# Altium footprint library Intelligent_Agriculture_pcblib.PcbLib: 36 footprints (part 2 of 3)
Each footprint in its own frame and in the unit in brackets; x right, y up, seen from the top. Pads: shape width x height; smd on the part's side, far side on the other; paste and mask are expansions set on the pad; w line width, h text height; cw(c..) or ccw(c..) is an arc to the next point about the centre after c.
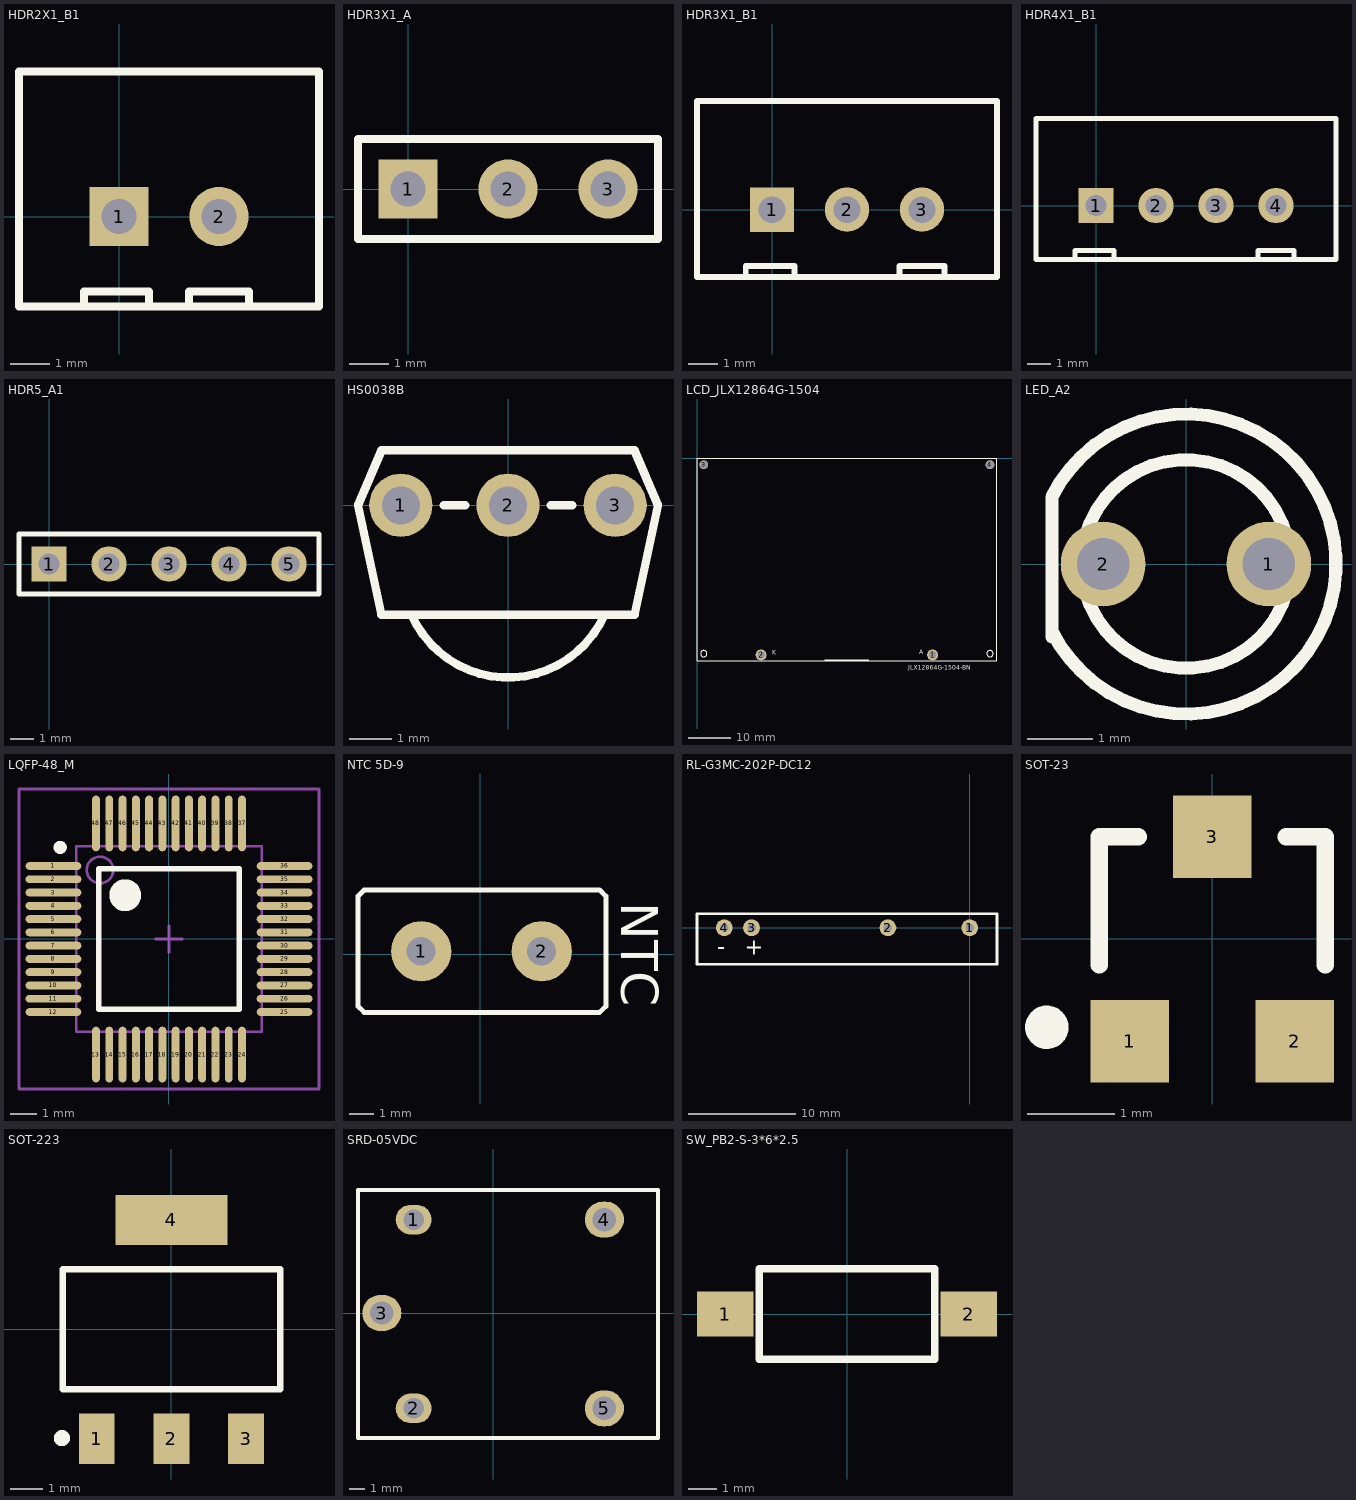
[diagram p1: the footprints below, top view; thin cyan lines are the x and y axes]

## HDR2X1_B1 [mm]
pads (2):
  rect 1.5x1.5 hole 0.9: 1(0,0)
  round 1.5 hole 0.9: 2(2.54,0)
Top Overlay:
  lines w0.2: -0.889,-2.286 -0.889,-1.905 0.762,-1.905 0.762,-2.286 ; 1.778,-2.286 1.778,-1.905 3.302,-1.905 3.302,-2.286 ; -2.54,-2.286 5.08,-2.286 5.08,3.683 -2.54,3.683 -2.54,-2.286
3D body: height 1.5, standoff 0, extent -2.413,-2.159 5.08,3.556

## HDR3X1_A [mm]
pads (3):
  rect 1.5x1.5 hole 0.9: 1(0,0)
  round 1.5 hole 0.9: 2(2.54,0) 3(5.08,0)
Top Overlay:
  lines w0.2: -1.27,-1.27 -1.27,1.27 6.35,1.27 6.35,-1.27 -1.27,-1.27

## HDR3X1_B1 [mm]
pads (3):
  rect 1.5x1.5 hole 0.9: 1(0,0)
  round 1.5 hole 0.9: 2(2.54,0) 3(5.08,0)
Top Overlay:
  lines w0.2: -0.889,-2.286 -0.889,-1.905 0.762,-1.905 0.762,-2.286 ; 4.318,-2.286 4.318,-1.905 5.842,-1.905 5.842,-2.286 ; -2.54,-2.286 7.62,-2.286 7.62,3.683 -2.54,3.683 -2.54,-2.286
3D body: height 1.5, standoff 0, extent -2.54,-2.286 7.62,3.683

## HDR4X1_B1 [mm]
pads (4):
  rect 1.5x1.5 hole 0.9: 1(0,0)
  round 1.5 hole 0.9: 2(2.54,0) 3(5.08,0) 4(7.62,0)
Top Overlay:
  lines w0.2: -0.889,-2.286 -0.889,-1.905 0.762,-1.905 0.762,-2.286 ; 6.858,-2.286 6.858,-1.905 8.382,-1.905 8.382,-2.286 ; -2.54,-2.286 10.16,-2.286 10.16,3.683 -2.54,3.683 -2.54,-2.286
3D body: height 1.5, standoff 0, extent -2.413,-2.159 10.033,3.556

## HDR5_A1 [mm]
pads (5):
  rect 1.5x1.5 hole 0.9: 1(0,0)
  round 1.5 hole 0.9: 2(2.54,0) 3(5.08,0) 4(7.62,0) 5(10.16,0)
Top Overlay:
  lines w0.2: -1.27,-1.27 11.43,-1.27 11.43,1.27 -1.27,1.27 -1.27,-1.27

## HS0038B [mm]
pads (3):
  round 1.5 hole 0.9: 1(-2.54,0) 2(0,0) 3(2.54,0)
Top Overlay:
  lines w0.2: -2.285,-2.599 ccw(c0,-1.584) 2.285,-2.599 ; -1.524,0 -1.016,0 ; 1.016,0 1.524,0 ; -3.556,0 -3,-2.6 3,-2.6 3.556,0 3,1.3 -3,1.3 -3.556,0

## LCD_JLX12864G-1504 [mm]
pads (4):
  round 2.6 hole 1.8: 1(56.05,-46.85) 2(15.25,-46.85)
  round 2.1 hole 2.1: 3(1.6,-1.6) 4(69.7,-1.6)
Top Overlay:
  circle w0.254: c69.7,-46.55 r0.762
  circle w0.254: c1.6,-46.55 r0.762
  lines w0.254: 30.4,-48 40.9,-48 ; 0,-48.26 71.374,-48.26 71.374,0 0,0 0,-48.26
  text "JLX12864G-1504-BN" at 50.217,-50.435 h1.02
  text "K" at 17.907,-46.863 h1.02
  text "A" at 52.832,-46.736 h1.02

## LED_A2 [mm]
pads (2):
  round 1.3 hole 0.8: 1(1.27,0) 2(-1.27,0)
Top Overlay:
  circle w0.2: c0,0 r1.6
  lines w0.2: -2.057,-1.118 -2.057,1.029 cw(c0,0) -2.057,-1.029

## LQFP-48_M [mm]
pads (48):
  oval 2.1x0.3 smd: 1(-4.354,2.75) 2(-4.354,2.25) 3(-4.354,1.75) 4(-4.354,1.25) 5(-4.354,0.75) 6(-4.354,0.25) 7(-4.354,-0.25) 8(-4.354,-0.75) 9(-4.354,-1.25) 10(-4.354,-1.75) 11(-4.354,-2.25) 12(-4.354,-2.75) 25(4.354,-2.75) 26(4.354,-2.25) 27(4.354,-1.75) 28(4.354,-1.25) 29(4.354,-0.75) 30(4.354,-0.25) 31(4.354,0.25) 32(4.354,0.75) 33(4.354,1.25) 34(4.354,1.75) 35(4.354,2.25) 36(4.354,2.75)
  oval 0.3x2.1 smd: 13(-2.75,-4.354) 14(-2.25,-4.354) 15(-1.75,-4.354) 16(-1.25,-4.354) 17(-0.75,-4.354) 18(-0.25,-4.354) 19(0.25,-4.354) 20(0.75,-4.354) 21(1.25,-4.354) 22(1.75,-4.354) 23(2.25,-4.354) 24(2.75,-4.354) 37(2.75,4.354) 38(2.25,4.354) 39(1.75,4.354) 40(1.25,4.354) 41(0.75,4.354) 42(0.25,4.354) 43(-0.25,4.354) 44(-0.75,4.354) 45(-1.25,4.354) 46(-1.75,4.354) 47(-2.25,4.354) 48(-2.75,4.354)
Top Overlay:
  circle w0.6: c-1.65,1.65 r0.3
  circle w0.25: c-4.1,3.45 r0.125
  lines w0.2: -2.65,-2.65 2.65,-2.65 2.65,2.65 -2.65,2.65 -2.65,-2.65
Mechanical 13:
  circle w0.1: c-2.6,2.6 r0.5
  lines w0.1: -3.5,-3.5 3.5,-3.5 3.5,3.5 -3.5,3.5 -3.5,-3.5
Mechanical 15:
  lines w0.1: -0.5,0 0.5,0 ; 0,-0.5 0,0.5 ; -5.65,-5.65 5.65,-5.65 5.65,5.65 -5.65,5.65 -5.65,-5.65
3D body: height 1.6, standoff 0, extent -3.5,-3.5 3.5,3.5

## NTC 5D-9 [mm]
pads (2):
  round 2.5 hole 1.2: 1(-2.46,0.127) 2(2.54,0.127)
Top Overlay:
  lines w0.2: -5.08,-2.159 -5.08,2.413 -4.826,2.667 -3.302,2.667 4.953,2.667 5.207,2.413 5.207,-2.159 4.953,-2.413 3.175,-2.413 -4.826,-2.413 -5.08,-2.159
  text "NTC" at 5.842,2.159 h1.52

## PCBComponent_1 [mm]

## RL-G3MC-202P-DC12 [mm] "12V 固态继电器"
pads (4):
  round 1.57 hole 0.8: 1(0,0) 2(-7.62,0) 3(-20.32,0) 4(-22.86,0)
Top Overlay:
  lines w0.254: -25.4,-3.4 2.54,-3.4 2.54,1.3 -25.4,1.3 -25.4,-3.4
  text "+" at -20.955,-2.54 h1.52
  text "-" at -23.495,-2.54 h1.52

## SOT-23 [mm]
pads (3):
  rect 0.9x0.95 smd: 1(-0.95,-1.175) 2(0.95,-1.175) 3(0,1.175)
Top Overlay:
  circle w0.25: c-1.903,-1.016 r0.125
  lines w0.2: -1.3,-0.3 -1.3,1.175 -0.85,1.175 ; 0.85,1.175 1.3,1.175 1.3,-0.3

## SOT-223 [mm]
pads (4):
  rect 1.1x1.55 smd: 1(-2.3,-3.375) 2(0,-3.375) 3(2.3,-3.375)
  rect 3.45x1.55 smd: 4(0,3.375)
Top Overlay:
  circle w0.25: c-3.376,-3.353 r0.125
  lines w0.2: -3.35,-1.85 3.35,-1.85 3.35,1.85 -3.35,1.85 -3.35,-1.85
3D body: height 0.3, standoff 0, extent 1.905,-3.937 2.794,-2.032
3D body: height 0.3, standoff 0, extent -0.508,-3.937 0.381,-2.032
3D body: height 0.3, standoff 0, extent -2.794,-3.937 -1.905,-2.032
3D body: height 0.3, standoff 0, extent -1.651,2.159 1.651,3.429
3D body: height 0.8, standoff 0, extent -3.302,-2.032 3.302,2.159

## SRD-05VDC [mm]
pads (5):
  oval 2.3x1.9 hole 1.3: 1(-5.08,5.969) 2(-5.08,-6.096)
  oval 2.5x2.3 hole 1.5: 3(-7.112,0) 4(7.112,5.969) 5(7.112,-6.096)
Top Overlay:
  lines w0.254: -8.636,-8.001 10.541,-8.001 10.541,7.874 -8.636,7.874 -8.636,7.239 -8.636,-7.239 -8.636,-8.001
Bottom Overlay:
  lines w0.254: -5.715,0.127 3.81,0.127 5.588,1.905 ; -3.81,-6.096 -3.175,-6.096 -3.175,-3.556 -3.175,-2.921 -3.175,-2.286 cw(c-3.175,-1.651) -3.175,-1.016 cw(c-3.175,-0.381) -3.175,0.254 cw(c-3.175,0.889) -3.175,1.524 cw(c-3.175,2.159) -3.175,2.794 -3.175,3.429 -3.175,5.969 -3.81,5.969 ; 5.08,-0.635 5.08,-5.715 5.461,-6.096 5.715,-6.096 ; 5.08,1.778 5.08,5.588 5.461,5.969 5.715,5.969

## SW_PB2-S-3*6*2.5 [mm]
pads (2):
  rect 2x1.6 smd: 1(-4.3,0) 2(4.3,0)
Top Overlay:
  lines w0.25: -3.1,-1.6 -3.1,1.6 3.1,1.6 3.1,-1.6 -3.1,-1.6